# EAGLE library part LT1711 (library lbm)
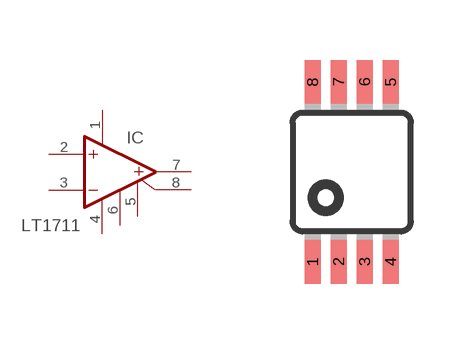
[diagram p29: symbol with the pads of MSOP8; footprint MSOP8]

Designator prefix IC

## LT1711  [MSOP8]
1  V+  pwr
2  IN+  in
3  IN-  in
4  V-  pwr
5  LO  pas
6  GND  pas
7  OUT  out
8  OUT/  pas

## Footprint MSOP8 (pad centres in mm)
smd 0.4 x 1.1: 1 -0.975,-2.25; 2 -0.325,-2.25; 3 0.325,-2.25; 4 0.975,-2.25; 5 0.975,2.25; 6 0.325,2.25; 7 -0.325,2.25; 8 -0.975,2.25